# Altium footprint library PLD-14R (DS1022-2x20R).PcbLib: 1 footprints
Each footprint in its own frame and in the unit in brackets; x right, y up, seen from the top. Pads: shape width x height; smd on the part's side, far side on the other; paste and mask are expansions set on the pad; w line width, h text height; cw(c..) or ccw(c..) is an arc to the next point about the centre after c.
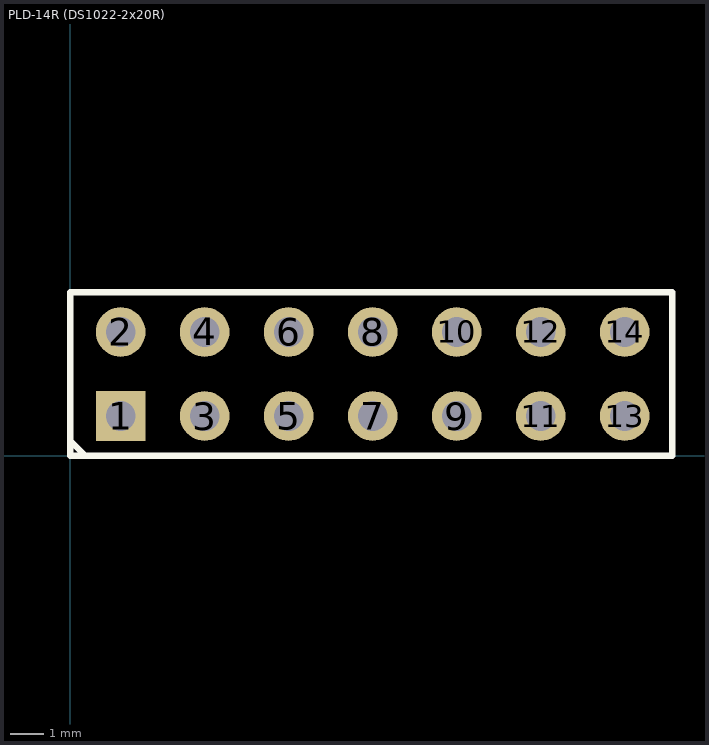
[diagram p0: the footprint, top view; thin cyan lines are the x and y axes]

## PLD-14R (DS1022-2x20R) [mm]
pads (14):
  rect 1.5x1.5 hole 0.9: 1(1.525,1.2)
  round 1.5 hole 0.9: 2(1.525,3.74) 3(4.065,1.2) 4(4.065,3.74) 5(6.605,1.2) 6(6.605,3.74) 7(9.145,1.2) 8(9.145,3.74) 9(11.685,1.2) 10(11.685,3.74) 11(14.225,1.2) 12(14.225,3.74) 13(16.765,1.2) 14(16.765,3.74)
Top Overlay:
  lines w0.2: 0.437,0.013 0,0.45 ; 0,0.45 0,0.45 ; 0,0 18.2,0 18.2,4.94 0,4.94 0,0
3D body "PLD-14R.STEP": height 5.08, standoff -2, extent 0.27,-6.08 18.05,4.08